# Altium schematic symbol library transformer_rf.SchLib: 17 symbols
Pins are listed as number, name and electrical type; pins without a type are passive.

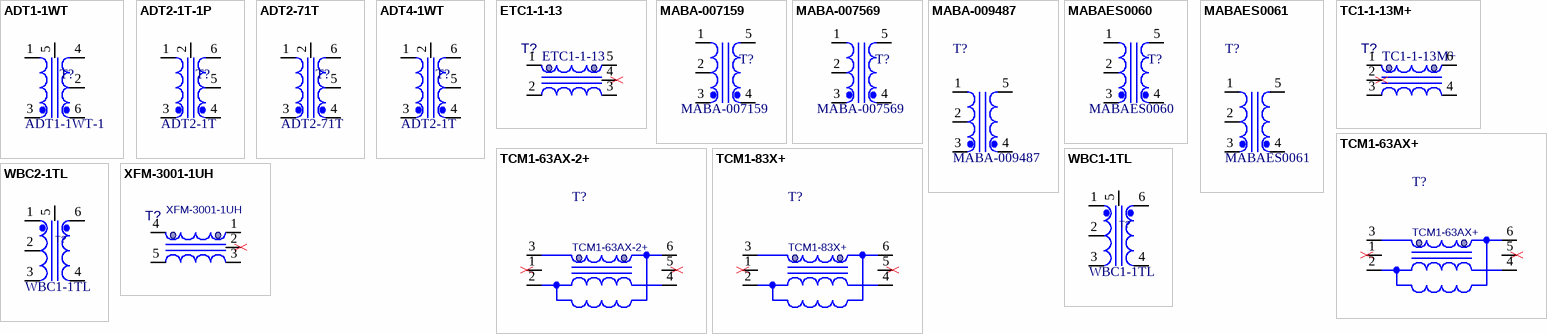
[diagram p0: symbols ADT1-1WT to XFM-3001-1UH]

## ADT1-1WT
designator T?, comment ADT1-1WT-1
RF Transformer, 1:1, 75Ohm, 0.4~800MHz; MANF: Mini-Circuits; MANF_P#: ADT1-1WT, ADT1-1WT+; PARAM2: 0.5W, 30mA; PARAM: 75Ohm, 0.4~800MHz; VALUE: ADT1-1WT-1
footprint TRNS254_6_8X6 (Transformer, ADT1-1WT, 7.9X5.6X2.8mm)
pins: 1 PRI, 2 SEC_CT, 3 PRI_DOT, 4 SEC, 5 NC, 6 SEC_DOT

## ADT2-1T-1P
designator T?, comment ADT2-1T
RF Transformer, 1:2, 50Ohm, 8~600MHz; MANF: Mini-Circuits; MANF_P#: ADT2-1T-1P; PARAM2: 1W, 30mA; PARAM: 1:2, 50Ohm, 8~600MHz; VALUE: ADT2-1T
footprint TRNS254_6_8X6 (Transformer, ADT1-1WT, 7.9X5.6X2.8mm)
pins: 1 PRI, 2 NC, 3 PRI_DOT, 4 SEC_DOT, 5 SEC_CT, 6 SEC

## ADT2-71T
designator T?
RF Transformer, 1:2, 50Ohm, 0.005~70MHz; MANF: Mini-Circuits; MANF_P#: ADT2-71T+; PARAM2: 0.25W, 30mA; PARAM: 50Ohm, 0.005~70MHz; VALUE: ADT2-71T
footprint TRNS254_6_8X6 (Transformer, ADT1-1WT, 7.9X5.6X2.8mm)
pins: 1 PRI, 2 NC, 3 PRI_DOT, 4 SEC_DOT, 5 SEC_CT, 6 SEC

## ADT4-1WT
designator T?, comment ADT2-1T
RF Transformer, 1:4, 50Ohm, 2~775MHz; MANF: Mini-Circuits; MANF_P#: ADT2-1T-1P; PARAM2: 0.25W, 30mA; PARAM: 1:4, 50Ohm, 2~775MHz; VALUE: ADT2-1T
footprint TRNS254_6_8X6 (Transformer, ADT1-1WT, 7.9X5.6X2.8mm)
pins: 1 PRI, 2 NC, 3 PRI_DOT, 4 SEC_DOT, 5 SEC_CT, 6 SEC

## ETC1-1-13
designator T?
RF Transformer, 1:1, 50Ohm, 4.5~3000MHz; MANF: MACOM; DESC: DESCRIPTION; PARAM2: 0.25W, 30mA; ASSEMBLY: ASSEMBLY; PARAM: 1:1, 50Ohm, 4.5~3000MHz; PRICE: PRICE; MANF_P#: ETC1-1-13; VALUE: ETC1-1-13
footprint TRNS_ETC1_1_13 (Transformer, 5pin ETC1-1-13 3.8x3.8mm pitch: 1.27mm)
pins: 1 PRI., 2 PRI, 3 SEC, 4, 5 SEC.
2 alternate drawings of the same symbol

## MABA-007159
designator T?
RF Transformer, 1:1, 50Ohm, 4.5~3000MHz; MANF: MACOM; MANF_P#: MABA-007159-000000; PARAM2: 0.25W, 30mA; PARAM: 1:1, 50Ohm, 4.5~3000MHz; PRICE: 1.7$; VALUE: MABA-007159
footprint TRNS127_6_S380SM22 (Transformer, sm-22, AT224)
pins: 1 Sec-, 2 Sec+, 3 Sec+, 4 Pri+, 5 Pri-

## MABA-007569
designator T?
RF Transformer, 1:4, 50Ohm, 2~1000MHz; MANF: MACOM; MANF_P#: MABA-007569-ETK42T; PARAM2: 0.25W, 30mA; PARAM: 1:4, 50Ohm, 2~1000MHz; PRICE: 3$; VALUE: MABA-007569
footprint TRNS127_6_S380SM22 (Transformer, sm-22, AT224)
pins: 1 Sec-, 2 Sec+, 3 Sec+, 4 Pri+, 5 Pri-

## MABA-009487
designator T?
RF Transformer, 1:1, 50Ohm, 0.4~500MHz; MANF: MACOM; DESC: DESCRIPTION; MANF_P#: MABA-009487-60HWCA; PARAM2: 0.25W, 240mA; ASSEMBLY: ASSEMBLY; PARAM: 1:1, 50Ohm, 0.4~500MHz; PRICE: PRICE; VALUE: MABA-009487
footprint TRNS127_6_S380SM22 (Transformer, sm-22, AT224, ETC1-1-13)
pins: 1 Sec-, 2 Sec+, 3 Sec+, 4 Pri+, 5 Pri-
2 alternate drawings of the same symbol

## MABAES0060
designator T?
RF Transformer, 1:1, 50Ohm, 0.3~200MHz; MANF: MACOM; PARAM2: 0.25W, 240mA; MANF_P#: MABAES0060; PARAM: 1:1, 50Ohm, 0.3~200MHz; VALUE: MABAES0060
footprint TRNS127_6_S380SM22 (Transformer, sm-22, AT224)
pins: 1 Sec-, 2 Sec+, 3 Sec+, 4 Pri+, 5 Pri-

## MABAES0061
designator T?
RF Transformer, 1:4, 50Ohm, 2~800MHz; MANF: MACOM; DESC: DESCRIPTION; PARAM2: 0.25W, 240mA; ASSEMBLY: ASSEMBLY; PARAM: 1:4, 50Ohm, 2~800MHz; PRICE: PRICE; MANF_P#: MABAES0061; VALUE: MABAES0061
footprint TRNS127_6_S380SM22 (Transformer, sm-22, AT224)
pins: 1 Sec-, 2 Sec+, 3 Sec+, 4 Pri+, 5 Pri-
2 alternate drawings of the same symbol

## TC1-1-13M+
designator T?
RF Transformer, 1:1, 50Ohm, 4.5~3000MHz; MANF: Mini-Circuits; PARAM: 1:1, 50Ohm, 4.5~3000MHz, -40~85oC; DESC: DESCRIPTION; PARAM2: 0.25W, 30mA; ASSEMBLY: ASSEMBLY; PRICE: PRICE; MANF_P#: TC1-1-13M+; VALUE: TC1-1-13M+
footprint TRNS_TC1_1_13 (Transformer, 5pin TC1-1-13M+ 3.8x3.8mm pitch: 1.27mm)
pins: 1 PRI., 2, 3 PRI, 4 SEC, 6 SEC.
2 alternate drawings of the same symbol

## TCM1-63AX+
designator T?
RF Transformer, 1:1, 50Ohm, 10~6000MHz; MANF: Mini-Circuit; DESC: DESCRIPTION; PARAM2: 0.2W, 30mA, -40~85oC; ASSEMBLY: ASSEMBLY; PARAM: 10~6000MHz; PRICE: PRICE; MANF_P#: TCM1-63AX+; VALUE: TCM1-63AX+
footprint TRNS127_6_S380CW (Transformer, 4X3.8mm, 1.27mm pitch, Clockwise numbering)
pins: 1 NC, 2 PRI, 3 PRI., 4 SEC, 5 NC, 6 SEC.
2 alternate drawings of the same symbol

## TCM1-63AX-2+
designator T?
RF Transformer, 1:1, 50Ohm, 10~6000MHz; MANF: Mini-Circuit; DESC: DESCRIPTION; PARAM2: 0.2W, 30mA, -40~85oC; ASSEMBLY: ASSEMBLY; PARAM: 10~6000MHz; PRICE: PRICE; MANF_P#: TCM1-63AX-2+; VALUE: TCM1-63AX-2+
footprint TRNS127_6_S380CW (Transformer, 4X3.8mm, 1.27mm pitch, Clockwise numbering)
pins: 1 NC, 2 PRI, 3 PRI., 4 SEC, 5 NC, 6 SEC.
2 alternate drawings of the same symbol

## TCM1-83X+
designator T?
RF Transformer, 1:1, 50Ohm, 10~8000MHz; MANF: Mini-Circuit; DESC: DESCRIPTION; PARAM2: 0.2W, 30mA, -40~85oC; ASSEMBLY: ASSEMBLY; PARAM: 10~8000MHz; PRICE: PRICE; MANF_P#: TCM1-83X+; VALUE: TCM1-83X+
footprint TRNS127_6_S380SM22 (Transformer, sm-22, AT224)
pins: 1 NC, 2 PRI, 3 PRI., 4 SEC, 5 NC, 6 SEC.
2 alternate drawings of the same symbol

## WBC1-1TL
designator T?
RF Transformer, 1:1, 50Ohm, 0.25~750MHz; MANF: Coilcraft; PARAM2: 36mA; MANF_P#: WBC1-1TL; PARAM: 1:1, 50Ohm, 0.25~750MHz; PRICE: 5$; VALUE: WBC1-1TL
footprint TRNS150_6_450X420 (Transformer, WBC, pitch:1.5mm, 4.5X4.2mm)
pins: 1 PRIDOT, 2 PRICT, 3 PRI, 4 SEC, 5 NC, 6 SECDOT

## WBC2-1TL
designator T?, comment WBC1-1TL
RF Transformer, 1:2, 50Ohm, 0.25~500MHz; MANF: Coilcraft; MANF_P#: WBC2-1TL; PARAM2: 36mA; PARAM: 1:2, 50Ohm, 0.25~750MHz; PRICE: 5$; VALUE: WBC1-1TL
footprint TRNS150_6_450X420 (Transformer, WBC, pitch:1.5mm, 4.5X4.2mm)
pins: 1 PRIDOT, 2 PRICT, 3 PRI, 4 SEC, 5 NC, 6 SECDOT

## XFM-3001-1UH
designator T?
RF Transformer, 1:1, 50Ohm, 5~3000MHz; MANF: MiniRF; DESC: DESCRIPTION; PARAM2: 0.25W, 30mA, -55~100oC; ASSEMBLY: ASSEMBLY; PARAM: 1:1, 50Ohm, 5~3000MHz; PRICE: PRICE; MANF_P#: XFM-3001-1UH; VALUE: XFM-3001-1UH
footprint TRNS_XFM300 (Footprint not found)
pins: 1 SEC., 2, 3 SEC, 4 PRI., 5 PRI
2 alternate drawings of the same symbol